# Altium footprint library RP2xxx_Stamp.PcbLib: 9 footprints
Each footprint in its own frame and in the unit in brackets; x right, y up, seen from the top. Pads: shape width x height; smd on the part's side, far side on the other; paste and mask are expansions set on the pad; w line width, h text height; cw(c..) or ccw(c..) is an arc to the next point about the centre after c.
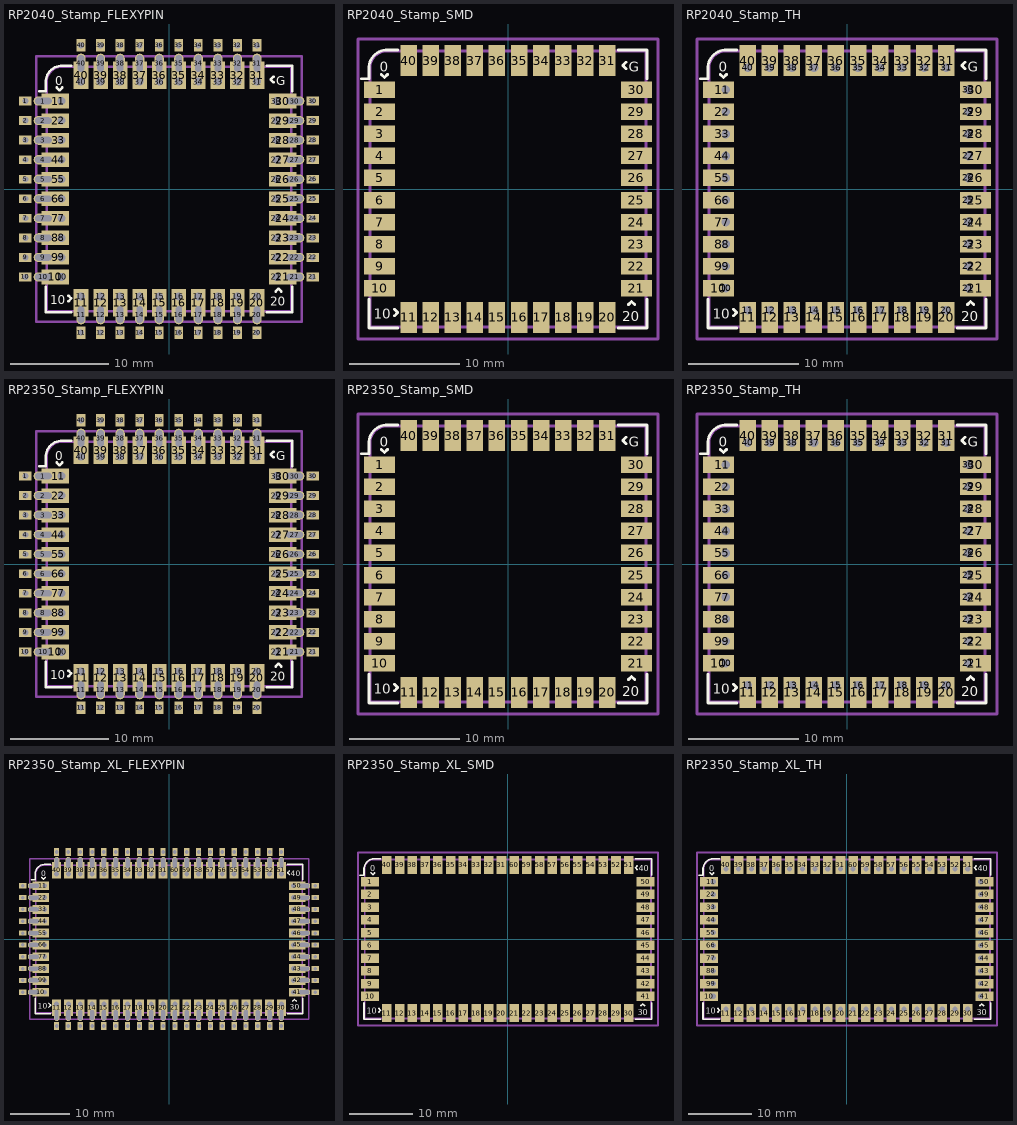
[diagram p0: the footprints below, top view; thin cyan lines are the x and y axes]

## RP2040_Stamp_FLEXYPIN [mm]
pads (160):
  rect 1.3x0.9 hole 0.6: 1(-14.7,9) 2(-14.7,7) 3(-14.7,5) 4(-14.7,3) 5(-14.7,1) 6(-14.7,-1) 7(-14.7,-3) 8(-14.7,-5) 9(-14.7,-7) 10(-14.7,-9) 21(14.7,-9) 22(14.7,-7) 23(14.7,-5) 24(14.7,-3) 25(14.7,-1) 26(14.7,1) 27(14.7,3) 28(14.7,5) 29(14.7,7) 30(14.7,9)
  rrect100% 2x0.95 hole 0.65 slot 1.7 at 0 deg: 1(-12.85,9) 2(-12.85,7) 3(-12.85,5) 4(-12.85,3) 5(-12.85,1) 6(-12.85,-1) 7(-12.85,-3) 8(-12.85,-5) 9(-12.85,-7) 10(-12.85,-9) 21(12.85,-9) 22(12.85,-7) 23(12.85,-5) 24(12.85,-3) 25(12.85,-1) 26(12.85,1) 27(12.85,3) 28(12.85,5) 29(12.85,7) 30(12.85,9)
  rect 2.8x1.5 smd: 1(-11.65,9) 2(-11.65,7) 3(-11.65,5) 4(-11.65,3) 5(-11.65,1) 6(-11.65,-1) 7(-11.65,-3) 8(-11.65,-5) 9(-11.65,-7) 10(-11.65,-9) 21(11.65,-9) 22(11.65,-7) 23(11.65,-5) 24(11.65,-3) 25(11.65,-1) 26(11.65,1) 27(11.65,3) 28(11.65,5) 29(11.65,7) 30(11.65,9)
  round 1.35 hole 0.8: 1(-11,9)
  rrect100% 1.35x1.35 hole 0.8: 2(-11,7) 3(-11,5) 4(-11,3) 5(-11,1) 6(-11,-1) 7(-11,-3) 8(-11,-5) 9(-11,-7) 10(-11,-9) 11(-9,-11) 12(-7,-11) 13(-5,-11) 14(-3,-11) 15(-1,-11) 16(1,-11) 17(3,-11) 18(5,-11) 19(7,-11) 20(9,-11) 21(11,-9) 22(11,-7) 23(11,-5) 24(11,-3) 25(11,-1) 26(11,1) 27(11,3) 28(11,5) 29(11,7) 30(11,9) 31(9,11) 32(7,11) 33(5,11) 34(3,11) 35(1,11) 36(-1,11) 37(-3,11) 38(-5,11) 39(-7,11) 40(-9,11)
  rect 0.9x1.3 hole 0.6: 11(-9,-14.7) 12(-7,-14.7) 13(-5,-14.7) 14(-3,-14.7) 15(-1,-14.7) 16(1,-14.7) 17(3,-14.7) 18(5,-14.7) 19(7,-14.7) 20(9,-14.7) 31(9,14.7) 32(7,14.7) 33(5,14.7) 34(3,14.7) 35(1,14.7) 36(-1,14.7) 37(-3,14.7) 38(-5,14.7) 39(-7,14.7) 40(-9,14.7)
  rrect100% 0.95x2 hole 0.65 slot 1.7 at 90 deg: 11(-9,-12.85) 12(-7,-12.85) 13(-5,-12.85) 14(-3,-12.85) 15(-1,-12.85) 16(1,-12.85) 17(3,-12.85) 18(5,-12.85) 19(7,-12.85) 20(9,-12.85) 31(9,12.85) 32(7,12.85) 33(5,12.85) 34(3,12.85) 35(1,12.85) 36(-1,12.85) 37(-3,12.85) 38(-5,12.85) 39(-7,12.85) 40(-9,12.85)
  rect 1.5x2.8 smd: 11(-9,-11.65) 12(-7,-11.65) 13(-5,-11.65) 14(-3,-11.65) 15(-1,-11.65) 16(1,-11.65) 17(3,-11.65) 18(5,-11.65) 19(7,-11.65) 20(9,-11.65) 31(9,11.65) 32(7,11.65) 33(5,11.65) 34(3,11.65) 35(1,11.65) 36(-1,11.65) 37(-3,11.65) 38(-5,11.65) 39(-7,11.65) 40(-9,11.65)
Top Overlay:
  lines w0.254: -13.3,10 -12.6,10 -12.6,11.1 cw(c-10.983,10.983) -11.1,12.6 -10,12.6 ; -12.6,-10 -12.6,-12.6 -10,-12.6 ; -11.5,10.4 -11.2,10.1 -10.9,10.4 ; -10.3,-11.5 -10,-11.2 -10.3,-10.9 ; 10,-12.6 12.6,-12.6 12.6,-10 ; 10,12.6 12.6,12.6 12.6,10 ; 10.7,10.9 10.4,11.2 10.7,11.5 ; 10.9,-10.5 11.2,-10.2 11.5,-10.5
  text "10" at -12.15,-11.77 h0.9
  text "G" at 10.959,10.63 h0.9
  text "20" at 10.379,-11.97 h0.9
  text "0" at -11.62,10.63 h0.9
Mechanical 7:
  lines w0.254: -13.6,-13.6 -13.6,13.6 13.6,13.6 13.6,-13.6 -13.6,-13.6
Assembly Top:
  lines w0.254: -12.5,-12.5 12.5,-12.5 12.5,12.5 -11,12.5 ccw(c-11,11) -12.5,11 -12.5,-12.5
  text ".Designator" at -4.998,-0.333 h1
3D body "RP2040_Stamp.step": height 2.58, standoff -0.06, extent -12.5,-12.5 12.5,12.5

## RP2040_Stamp_SMD [mm]
pads (40):
  rect 2.8x1.5 smd: 1(-11.65,9) 2(-11.65,7) 3(-11.65,5) 4(-11.65,3) 5(-11.65,1) 6(-11.65,-1) 7(-11.65,-3) 8(-11.65,-5) 9(-11.65,-7) 10(-11.65,-9) 21(11.65,-9) 22(11.65,-7) 23(11.65,-5) 24(11.65,-3) 25(11.65,-1) 26(11.65,1) 27(11.65,3) 28(11.65,5) 29(11.65,7) 30(11.65,9)
  rect 1.5x2.8 smd: 11(-9,-11.65) 12(-7,-11.65) 13(-5,-11.65) 14(-3,-11.65) 15(-1,-11.65) 16(1,-11.65) 17(3,-11.65) 18(5,-11.65) 19(7,-11.65) 20(9,-11.65) 31(9,11.65) 32(7,11.65) 33(5,11.65) 34(3,11.65) 35(1,11.65) 36(-1,11.65) 37(-3,11.65) 38(-5,11.65) 39(-7,11.65) 40(-9,11.65)
Top Overlay:
  lines w0.254: -13.3,10 -12.6,10 -12.6,11.1 cw(c-10.983,10.983) -11.1,12.6 -10,12.6 ; -12.6,-10 -12.6,-12.6 -10,-12.6 ; -11.5,10.4 -11.2,10.1 -10.9,10.4 ; -10.3,-11.5 -10,-11.2 -10.3,-10.9 ; 10,-12.6 12.6,-12.6 12.6,-10 ; 10,12.6 12.6,12.6 12.6,10 ; 10.7,10.9 10.4,11.2 10.7,11.5 ; 10.9,-10.5 11.2,-10.2 11.5,-10.5
  text "10" at -12.15,-11.77 h0.9
  text "G" at 10.959,10.63 h0.9
  text "20" at 10.379,-11.97 h0.9
  text "0" at -11.62,10.63 h0.9
Mechanical 7:
  lines w0.254: -13.6,-13.6 13.6,-13.6 13.6,13.6 -13.6,13.6 -13.6,-13.6
Assembly Top:
  lines w0.254: -12.5,-12.5 12.5,-12.5 12.5,12.5 -11,12.5 ccw(c-11,11) -12.5,11 -12.5,-12.5
  text ".Designator" at -4.998,-0.333 h1
3D body "RP2040_Stamp.step": height 2.58, standoff -0.06, extent -12.5,-12.5 12.5,12.5

## RP2040_Stamp_TH [mm]
pads (80):
  rect 2.8x1.5 smd: 1(-11.65,9) 2(-11.65,7) 3(-11.65,5) 4(-11.65,3) 5(-11.65,1) 6(-11.65,-1) 7(-11.65,-3) 8(-11.65,-5) 9(-11.65,-7) 10(-11.65,-9) 21(11.65,-9) 22(11.65,-7) 23(11.65,-5) 24(11.65,-3) 25(11.65,-1) 26(11.65,1) 27(11.65,3) 28(11.65,5) 29(11.65,7) 30(11.65,9)
  round 1.35 hole 0.8: 1(-11,9)
  rrect100% 1.35x1.35 hole 0.8: 2(-11,7) 3(-11,5) 4(-11,3) 5(-11,1) 6(-11,-1) 7(-11,-3) 8(-11,-5) 9(-11,-7) 10(-11,-9) 11(-9,-11) 12(-7,-11) 13(-5,-11) 14(-3,-11) 15(-1,-11) 16(1,-11) 17(3,-11) 18(5,-11) 19(7,-11) 20(9,-11) 21(11,-9) 22(11,-7) 23(11,-5) 24(11,-3) 25(11,-1) 26(11,1) 27(11,3) 28(11,5) 29(11,7) 30(11,9) 31(9,11) 32(7,11) 33(5,11) 34(3,11) 35(1,11) 36(-1,11) 37(-3,11) 38(-5,11) 39(-7,11) 40(-9,11)
  rect 1.5x2.8 smd: 11(-9,-11.65) 12(-7,-11.65) 13(-5,-11.65) 14(-3,-11.65) 15(-1,-11.65) 16(1,-11.65) 17(3,-11.65) 18(5,-11.65) 19(7,-11.65) 20(9,-11.65) 31(9,11.65) 32(7,11.65) 33(5,11.65) 34(3,11.65) 35(1,11.65) 36(-1,11.65) 37(-3,11.65) 38(-5,11.65) 39(-7,11.65) 40(-9,11.65)
Top Overlay:
  lines w0.254: -13.3,10 -12.6,10 -12.6,11.1 cw(c-10.983,10.983) -11.1,12.6 -10,12.6 ; -12.6,-10 -12.6,-12.6 -10,-12.6 ; -11.5,10.4 -11.2,10.1 -10.9,10.4 ; -10.3,-11.5 -10,-11.2 -10.3,-10.9 ; 10,-12.6 12.6,-12.6 12.6,-10 ; 10,12.6 12.6,12.6 12.6,10 ; 10.7,10.9 10.4,11.2 10.7,11.5 ; 10.9,-10.5 11.2,-10.2 11.5,-10.5
  text "0" at -11.62,10.63 h0.9
  text "20" at 10.379,-11.97 h0.9
  text "G" at 10.959,10.63 h0.9
  text "10" at -12.15,-11.77 h0.9
Mechanical 7:
  lines w0.254: -13.6,-13.6 13.6,-13.6 13.6,13.6 -13.6,13.6 -13.6,-13.6
Assembly Top:
  lines w0.254: -12.5,-12.5 -12.5,11 cw(c-11,11) -11,12.5 12.5,12.5 12.5,-12.5 -12.5,-12.5
  text ".Designator" at -4.998,-0.333 h1
3D body "RP2040_Stamp.step": height 2.58, standoff -0.06, extent -12.5,-12.5 12.5,12.5

## RP2350_Stamp_FLEXYPIN [mm]
pads (160):
  rect 1.3x0.9 hole 0.6: 1(-14.7,9) 2(-14.7,7) 3(-14.7,5) 4(-14.7,3) 5(-14.7,1) 6(-14.7,-1) 7(-14.7,-3) 8(-14.7,-5) 9(-14.7,-7) 10(-14.7,-9) 21(14.7,-9) 22(14.7,-7) 23(14.7,-5) 24(14.7,-3) 25(14.7,-1) 26(14.7,1) 27(14.7,3) 28(14.7,5) 29(14.7,7) 30(14.7,9)
  rrect100% 2x0.95 hole 0.65 slot 1.7 at 0 deg: 1(-12.85,9) 2(-12.85,7) 3(-12.85,5) 4(-12.85,3) 5(-12.85,1) 6(-12.85,-1) 7(-12.85,-3) 8(-12.85,-5) 9(-12.85,-7) 10(-12.85,-9) 21(12.85,-9) 22(12.85,-7) 23(12.85,-5) 24(12.85,-3) 25(12.85,-1) 26(12.85,1) 27(12.85,3) 28(12.85,5) 29(12.85,7) 30(12.85,9)
  rect 2.8x1.5 smd: 1(-11.65,9) 2(-11.65,7) 3(-11.65,5) 4(-11.65,3) 5(-11.65,1) 6(-11.65,-1) 7(-11.65,-3) 8(-11.65,-5) 9(-11.65,-7) 10(-11.65,-9) 21(11.65,-9) 22(11.65,-7) 23(11.65,-5) 24(11.65,-3) 25(11.65,-1) 26(11.65,1) 27(11.65,3) 28(11.65,5) 29(11.65,7) 30(11.65,9)
  round 1.35 hole 0.8: 1(-11,9)
  rrect100% 1.35x1.35 hole 0.8: 2(-11,7) 3(-11,5) 4(-11,3) 5(-11,1) 6(-11,-1) 7(-11,-3) 8(-11,-5) 9(-11,-7) 10(-11,-9) 11(-9,-11) 12(-7,-11) 13(-5,-11) 14(-3,-11) 15(-1,-11) 16(1,-11) 17(3,-11) 18(5,-11) 19(7,-11) 20(9,-11) 21(11,-9) 22(11,-7) 23(11,-5) 24(11,-3) 25(11,-1) 26(11,1) 27(11,3) 28(11,5) 29(11,7) 30(11,9) 31(9,11) 32(7,11) 33(5,11) 34(3,11) 35(1,11) 36(-1,11) 37(-3,11) 38(-5,11) 39(-7,11) 40(-9,11)
  rect 0.9x1.3 hole 0.6: 11(-9,-14.7) 12(-7,-14.7) 13(-5,-14.7) 14(-3,-14.7) 15(-1,-14.7) 16(1,-14.7) 17(3,-14.7) 18(5,-14.7) 19(7,-14.7) 20(9,-14.7) 31(9,14.7) 32(7,14.7) 33(5,14.7) 34(3,14.7) 35(1,14.7) 36(-1,14.7) 37(-3,14.7) 38(-5,14.7) 39(-7,14.7) 40(-9,14.7)
  rrect100% 0.95x2 hole 0.65 slot 1.7 at 90 deg: 11(-9,-12.85) 12(-7,-12.85) 13(-5,-12.85) 14(-3,-12.85) 15(-1,-12.85) 16(1,-12.85) 17(3,-12.85) 18(5,-12.85) 19(7,-12.85) 20(9,-12.85) 31(9,12.85) 32(7,12.85) 33(5,12.85) 34(3,12.85) 35(1,12.85) 36(-1,12.85) 37(-3,12.85) 38(-5,12.85) 39(-7,12.85) 40(-9,12.85)
  rect 1.5x2.8 smd: 11(-9,-11.65) 12(-7,-11.65) 13(-5,-11.65) 14(-3,-11.65) 15(-1,-11.65) 16(1,-11.65) 17(3,-11.65) 18(5,-11.65) 19(7,-11.65) 20(9,-11.65) 31(9,11.65) 32(7,11.65) 33(5,11.65) 34(3,11.65) 35(1,11.65) 36(-1,11.65) 37(-3,11.65) 38(-5,11.65) 39(-7,11.65) 40(-9,11.65)
Top Overlay:
  lines w0.254: -13.3,10 -12.6,10 -12.6,11.1 cw(c-10.983,10.983) -11.1,12.6 -10,12.6 ; -12.6,-10 -12.6,-12.6 -10,-12.6 ; -11.5,10.4 -11.2,10.1 -10.9,10.4 ; -10.3,-11.5 -10,-11.2 -10.3,-10.9 ; 10,-12.6 12.6,-12.6 12.6,-10 ; 10,12.6 12.6,12.6 12.6,10 ; 10.7,10.9 10.4,11.2 10.7,11.5 ; 10.9,-10.5 11.2,-10.2 11.5,-10.5
  text "10" at -12.15,-11.77 h0.9
  text "G" at 10.959,10.63 h0.9
  text "20" at 10.379,-11.97 h0.9
  text "0" at -11.62,10.63 h0.9
Mechanical 7:
  lines w0.254: -13.6,-13.6 -13.6,13.6 13.6,13.6 13.6,-13.6 -13.6,-13.6
Assembly Top:
  lines w0.254: -12.5,-12.5 12.5,-12.5 12.5,12.5 -11,12.5 ccw(c-11,11) -12.5,11 -12.5,-12.5
  text ".Designator" at -4.998,-0.333 h1
3D body "RP2350_Stamp.step": height 2.55, standoff -0.04, extent -12.5,-12.5 12.5,12.5

## RP2350_Stamp_SMD [mm]
pads (40):
  rect 2.8x1.5 smd: 1(-11.65,9) 2(-11.65,7) 3(-11.65,5) 4(-11.65,3) 5(-11.65,1) 6(-11.65,-1) 7(-11.65,-3) 8(-11.65,-5) 9(-11.65,-7) 10(-11.65,-9) 21(11.65,-9) 22(11.65,-7) 23(11.65,-5) 24(11.65,-3) 25(11.65,-1) 26(11.65,1) 27(11.65,3) 28(11.65,5) 29(11.65,7) 30(11.65,9)
  rect 1.5x2.8 smd: 11(-9,-11.65) 12(-7,-11.65) 13(-5,-11.65) 14(-3,-11.65) 15(-1,-11.65) 16(1,-11.65) 17(3,-11.65) 18(5,-11.65) 19(7,-11.65) 20(9,-11.65) 31(9,11.65) 32(7,11.65) 33(5,11.65) 34(3,11.65) 35(1,11.65) 36(-1,11.65) 37(-3,11.65) 38(-5,11.65) 39(-7,11.65) 40(-9,11.65)
Top Overlay:
  lines w0.254: -13.3,10 -12.6,10 -12.6,11.1 cw(c-10.983,10.983) -11.1,12.6 -10,12.6 ; -12.6,-10 -12.6,-12.6 -10,-12.6 ; -11.5,10.4 -11.2,10.1 -10.9,10.4 ; -10.3,-11.5 -10,-11.2 -10.3,-10.9 ; 10,-12.6 12.6,-12.6 12.6,-10 ; 10,12.6 12.6,12.6 12.6,10 ; 10.7,10.9 10.4,11.2 10.7,11.5 ; 10.9,-10.5 11.2,-10.2 11.5,-10.5
  text "10" at -12.15,-11.77 h0.9
  text "G" at 10.959,10.63 h0.9
  text "20" at 10.379,-11.97 h0.9
  text "0" at -11.62,10.63 h0.9
Mechanical 7:
  lines w0.254: -13.6,-13.6 -13.6,13.6 13.6,13.6 13.6,-13.6 -13.6,-13.6
Assembly Top:
  lines w0.254: -12.5,-12.5 12.5,-12.5 12.5,12.5 -11,12.5 ccw(c-11,11) -12.5,11 -12.5,-12.5
  text ".Designator" at -4.998,-0.333 h1
3D body "RP2350_Stamp.step": height 2.55, standoff -0.04, extent -12.5,-12.5 12.5,12.5

## RP2350_Stamp_TH [mm]
pads (80):
  rect 2.8x1.5 smd: 1(-11.65,9) 2(-11.65,7) 3(-11.65,5) 4(-11.65,3) 5(-11.65,1) 6(-11.65,-1) 7(-11.65,-3) 8(-11.65,-5) 9(-11.65,-7) 10(-11.65,-9) 21(11.65,-9) 22(11.65,-7) 23(11.65,-5) 24(11.65,-3) 25(11.65,-1) 26(11.65,1) 27(11.65,3) 28(11.65,5) 29(11.65,7) 30(11.65,9)
  round 1.35 hole 0.8: 1(-11,9)
  rrect100% 1.35x1.35 hole 0.8: 2(-11,7) 3(-11,5) 4(-11,3) 5(-11,1) 6(-11,-1) 7(-11,-3) 8(-11,-5) 9(-11,-7) 10(-11,-9) 11(-9,-11) 12(-7,-11) 13(-5,-11) 14(-3,-11) 15(-1,-11) 16(1,-11) 17(3,-11) 18(5,-11) 19(7,-11) 20(9,-11) 21(11,-9) 22(11,-7) 23(11,-5) 24(11,-3) 25(11,-1) 26(11,1) 27(11,3) 28(11,5) 29(11,7) 30(11,9) 31(9,11) 32(7,11) 33(5,11) 34(3,11) 35(1,11) 36(-1,11) 37(-3,11) 38(-5,11) 39(-7,11) 40(-9,11)
  rect 1.5x2.8 smd: 11(-9,-11.65) 12(-7,-11.65) 13(-5,-11.65) 14(-3,-11.65) 15(-1,-11.65) 16(1,-11.65) 17(3,-11.65) 18(5,-11.65) 19(7,-11.65) 20(9,-11.65) 31(9,11.65) 32(7,11.65) 33(5,11.65) 34(3,11.65) 35(1,11.65) 36(-1,11.65) 37(-3,11.65) 38(-5,11.65) 39(-7,11.65) 40(-9,11.65)
Top Overlay:
  lines w0.254: -13.3,10 -12.6,10 -12.6,11.1 cw(c-10.983,10.983) -11.1,12.6 -10,12.6 ; -12.6,-10 -12.6,-12.6 -10,-12.6 ; -11.5,10.4 -11.2,10.1 -10.9,10.4 ; -10.3,-11.5 -10,-11.2 -10.3,-10.9 ; 10,-12.6 12.6,-12.6 12.6,-10 ; 10,12.6 12.6,12.6 12.6,10 ; 10.7,10.9 10.4,11.2 10.7,11.5 ; 10.9,-10.5 11.2,-10.2 11.5,-10.5
  text "0" at -11.62,10.63 h0.9
  text "20" at 10.379,-11.97 h0.9
  text "G" at 10.959,10.63 h0.9
  text "10" at -12.15,-11.77 h0.9
Mechanical 7:
  lines w0.254: -13.6,-13.6 13.6,-13.6 13.6,13.6 -13.6,13.6 -13.6,-13.6
Assembly Top:
  lines w0.254: -12.5,-12.5 -12.5,11 cw(c-11,11) -11,12.5 12.5,12.5 12.5,-12.5 -12.5,-12.5
  text ".Designator" at -4.998,-0.333 h1
3D body "RP2350_Stamp.step": height 2.55, standoff -0.04, extent -12.5,-12.5 12.5,12.5

## RP2350_Stamp_XL_FLEXYPIN [mm]
pads (240):
  rect 1.3x0.9 hole 0.6: 1(-24.7,9) 2(-24.7,7) 3(-24.7,5) 4(-24.7,3) 5(-24.7,1) 6(-24.7,-1) 7(-24.7,-3) 8(-24.7,-5) 9(-24.7,-7) 10(-24.7,-9) 41(24.7,-9) 42(24.7,-7) 43(24.7,-5) 44(24.7,-3) 45(24.7,-1) 46(24.7,1) 47(24.7,3) 48(24.7,5) 49(24.7,7) 50(24.7,9)
  rrect100% 2x0.95 hole 0.65 slot 1.7 at 0 deg: 1(-22.85,9) 2(-22.85,7) 3(-22.85,5) 4(-22.85,3) 5(-22.85,1) 6(-22.85,-1) 7(-22.85,-3) 8(-22.85,-5) 9(-22.85,-7) 10(-22.85,-9) 41(22.85,-9) 42(22.85,-7) 43(22.85,-5) 44(22.85,-3) 45(22.85,-1) 46(22.85,1) 47(22.85,3) 48(22.85,5) 49(22.85,7) 50(22.85,9)
  rect 2.8x1.5 smd: 1(-21.65,9) 2(-21.65,7) 3(-21.65,5) 4(-21.65,3) 5(-21.65,1) 6(-21.65,-1) 7(-21.65,-3) 8(-21.65,-5) 9(-21.65,-7) 10(-21.65,-9) 41(21.65,-9) 42(21.65,-7) 43(21.65,-5) 44(21.65,-3) 45(21.65,-1) 46(21.65,1) 47(21.65,3) 48(21.65,5) 49(21.65,7) 50(21.65,9)
  round 1.35 hole 0.8: 1(-21,9)
  rrect100% 1.35x1.35 hole 0.8: 2(-21,7) 3(-21,5) 4(-21,3) 5(-21,1) 6(-21,-1) 7(-21,-3) 8(-21,-5) 9(-21,-7) 10(-21,-9) 11(-19,-11) 12(-17,-11) 13(-15,-11) 14(-13,-11) 15(-11,-11) 16(-9,-11) 17(-7,-11) 18(-5,-11) 19(-3,-11) 20(-1,-11) 21(1,-11) 22(3,-11) 23(5,-11) 24(7,-11) 25(9,-11) 26(11,-11) 27(13,-11) 28(15,-11) 29(17,-11) 30(19,-11) 31(-1,11) 32(-3,11) 33(-5,11) 34(-7,11) 35(-9,11) 36(-11,11) 37(-13,11) 38(-15,11) 39(-17,11) 40(-19,11) 41(21,-9) 42(21,-7) 43(21,-5) 44(21,-3) 45(21,-1) 46(21,1) 47(21,3) 48(21,5) 49(21,7) 50(21,9) 51(19,11) 52(17,11) 53(15,11) 54(13,11) 55(11,11) 56(9,11) 57(7,11) 58(5,11) 59(3,11) 60(1,11)
  rect 0.9x1.3 hole 0.6: 11(-19,-14.7) 12(-17,-14.7) 13(-15,-14.7) 14(-13,-14.7) 15(-11,-14.7) 16(-9,-14.7) 17(-7,-14.7) 18(-5,-14.7) 19(-3,-14.7) 20(-1,-14.7) 21(1,-14.7) 22(3,-14.7) 23(5,-14.7) 24(7,-14.7) 25(9,-14.7) 26(11,-14.7) 27(13,-14.7) 28(15,-14.7) 29(17,-14.7) 30(19,-14.7) 31(-1,14.7) 32(-3,14.7) 33(-5,14.7) 34(-7,14.7) 35(-9,14.7) 36(-11,14.7) 37(-13,14.7) 38(-15,14.7) 39(-17,14.7) 40(-19,14.7) 51(19,14.7) 52(17,14.7) 53(15,14.7) 54(13,14.7) 55(11,14.7) 56(9,14.7) 57(7,14.7) 58(5,14.7) 59(3,14.7) 60(1,14.7)
  rrect100% 0.95x2 hole 0.65 slot 1.7 at 90 deg: 11(-19,-12.85) 12(-17,-12.85) 13(-15,-12.85) 14(-13,-12.85) 15(-11,-12.85) 16(-9,-12.85) 17(-7,-12.85) 18(-5,-12.85) 19(-3,-12.85) 20(-1,-12.85) 21(1,-12.85) 22(3,-12.85) 23(5,-12.85) 24(7,-12.85) 25(9,-12.85) 26(11,-12.85) 27(13,-12.85) 28(15,-12.85) 29(17,-12.85) 30(19,-12.85) 31(-1,12.85) 32(-3,12.85) 33(-5,12.85) 34(-7,12.85) 35(-9,12.85) 36(-11,12.85) 37(-13,12.85) 38(-15,12.85) 39(-17,12.85) 40(-19,12.85) 51(19,12.85) 52(17,12.85) 53(15,12.85) 54(13,12.85) 55(11,12.85) 56(9,12.85) 57(7,12.85) 58(5,12.85) 59(3,12.85) 60(1,12.85)
  rect 1.5x2.8 smd: 11(-19,-11.65) 12(-17,-11.65) 13(-15,-11.65) 14(-13,-11.65) 15(-11,-11.65) 16(-9,-11.65) 17(-7,-11.65) 18(-5,-11.65) 19(-3,-11.65) 20(-1,-11.65) 21(1,-11.65) 22(3,-11.65) 23(5,-11.65) 24(7,-11.65) 25(9,-11.65) 26(11,-11.65) 27(13,-11.65) 28(15,-11.65) 29(17,-11.65) 30(19,-11.65) 31(-1,11.65) 32(-3,11.65) 33(-5,11.65) 34(-7,11.65) 35(-9,11.65) 36(-11,11.65) 37(-13,11.65) 38(-15,11.65) 39(-17,11.65) 40(-19,11.65) 51(19,11.65) 52(17,11.65) 53(15,11.65) 54(13,11.65) 55(11,11.65) 56(9,11.65) 57(7,11.65) 58(5,11.65) 59(3,11.65) 60(1,11.65)
Top Overlay:
  lines w0.254: -23.3,10 -22.6,10 -22.6,11.1 cw(c-20.983,10.983) -21.1,12.6 -20,12.6 ; -22.6,-10 -22.6,-12.6 -20,-12.6 ; -21.5,10.4 -21.2,10.1 -20.9,10.4 ; -20.3,-11.5 -20,-11.2 -20.3,-10.9 ; 20,-12.6 22.6,-12.6 22.6,-10 ; 20,12.6 22.6,12.6 22.6,10 ; 20.35,10.9 20.05,11.2 20.35,11.5 ; 20.9,-10.5 21.2,-10.2 21.5,-10.5
  text "30" at 20.379,-11.97 h0.9
  text "40" at 20.579,10.63 h0.9
  text "10" at -22.15,-11.77 h0.9
  text "0" at -21.62,10.63 h0.9
Mechanical 7:
  lines w0.254: -23.55,-13.6 23.6,-13.6 23.6,13.6 -23.55,13.6 -23.55,-13.6
Assembly Top:
  lines w0.254: -22.5,-12.5 22.5,-12.5 22.5,12.5 -21,12.5 ccw(c-21,11) -22.5,11 -22.5,-12.5
  text ".Designator" at -4.998,-0.333 h1
3D body "RP2350_Stamp_XL.step": height 2.55, standoff -0.04, extent -22.5,-12.5 22.5,12.5

## RP2350_Stamp_XL_SMD [mm]
pads (60):
  rect 2.8x1.5 smd: 1(-21.65,9) 2(-21.65,7) 3(-21.65,5) 4(-21.65,3) 5(-21.65,1) 6(-21.65,-1) 7(-21.65,-3) 8(-21.65,-5) 9(-21.65,-7) 10(-21.65,-9) 41(21.65,-9) 42(21.65,-7) 43(21.65,-5) 44(21.65,-3) 45(21.65,-1) 46(21.65,1) 47(21.65,3) 48(21.65,5) 49(21.65,7) 50(21.65,9)
  rect 1.5x2.8 smd: 11(-19,-11.65) 12(-17,-11.65) 13(-15,-11.65) 14(-13,-11.65) 15(-11,-11.65) 16(-9,-11.65) 17(-7,-11.65) 18(-5,-11.65) 19(-3,-11.65) 20(-1,-11.65) 21(1,-11.65) 22(3,-11.65) 23(5,-11.65) 24(7,-11.65) 25(9,-11.65) 26(11,-11.65) 27(13,-11.65) 28(15,-11.65) 29(17,-11.65) 30(19,-11.65) 31(-1,11.65) 32(-3,11.65) 33(-5,11.65) 34(-7,11.65) 35(-9,11.65) 36(-11,11.65) 37(-13,11.65) 38(-15,11.65) 39(-17,11.65) 40(-19,11.65) 51(19,11.65) 52(17,11.65) 53(15,11.65) 54(13,11.65) 55(11,11.65) 56(9,11.65) 57(7,11.65) 58(5,11.65) 59(3,11.65) 60(1,11.65)
Top Overlay:
  lines w0.254: -23.3,10 -22.6,10 -22.6,11.1 cw(c-20.983,10.983) -21.1,12.6 -20,12.6 ; -22.6,-10 -22.6,-12.6 -20,-12.6 ; -21.5,10.4 -21.2,10.1 -20.9,10.4 ; -20.3,-11.5 -20,-11.2 -20.3,-10.9 ; 20,-12.6 22.6,-12.6 22.6,-10 ; 20,12.6 22.6,12.6 22.6,10 ; 20.35,10.9 20.05,11.2 20.35,11.5 ; 20.9,-10.5 21.2,-10.2 21.5,-10.5
  text "30" at 20.379,-11.97 h0.9
  text "40" at 20.579,10.63 h0.9
  text "10" at -22.15,-11.77 h0.9
  text "0" at -21.62,10.63 h0.9
Mechanical 7:
  lines w0.254: -23.55,-13.6 23.6,-13.6 23.6,13.6 -23.55,13.6 -23.55,-13.6
Assembly Top:
  lines w0.254: -22.5,-12.5 22.5,-12.5 22.5,12.5 -21,12.5 ccw(c-21,11) -22.5,11 -22.5,-12.5
  text ".Designator" at -4.998,-0.333 h1
3D body "RP2350_Stamp_XL.step": height 2.55, standoff -0.04, extent -22.5,-12.5 22.5,12.5

## RP2350_Stamp_XL_TH [mm]
pads (120):
  rect 2.8x1.5 smd: 1(-21.65,9) 2(-21.65,7) 3(-21.65,5) 4(-21.65,3) 5(-21.65,1) 6(-21.65,-1) 7(-21.65,-3) 8(-21.65,-5) 9(-21.65,-7) 10(-21.65,-9) 41(21.65,-9) 42(21.65,-7) 43(21.65,-5) 44(21.65,-3) 45(21.65,-1) 46(21.65,1) 47(21.65,3) 48(21.65,5) 49(21.65,7) 50(21.65,9)
  round 1.35 hole 0.8: 1(-21,9)
  rrect100% 1.35x1.35 hole 0.8: 2(-21,7) 3(-21,5) 4(-21,3) 5(-21,1) 6(-21,-1) 7(-21,-3) 8(-21,-5) 9(-21,-7) 10(-21,-9) 11(-19,-11) 12(-17,-11) 13(-15,-11) 14(-13,-11) 15(-11,-11) 16(-9,-11) 17(-7,-11) 18(-5,-11) 19(-3,-11) 20(-1,-11) 21(1,-11) 22(3,-11) 23(5,-11) 24(7,-11) 25(9,-11) 26(11,-11) 27(13,-11) 28(15,-11) 29(17,-11) 30(19,-11) 31(-1,11) 32(-3,11) 33(-5,11) 34(-7,11) 35(-9,11) 36(-11,11) 37(-13,11) 38(-15,11) 39(-17,11) 40(-19,11) 41(21,-9) 42(21,-7) 43(21,-5) 44(21,-3) 45(21,-1) 46(21,1) 47(21,3) 48(21,5) 49(21,7) 50(21,9) 51(19,11) 52(17,11) 53(15,11) 54(13,11) 55(11,11) 56(9,11) 57(7,11) 58(5,11) 59(3,11) 60(1,11)
  rect 1.5x2.8 smd: 11(-19,-11.65) 12(-17,-11.65) 13(-15,-11.65) 14(-13,-11.65) 15(-11,-11.65) 16(-9,-11.65) 17(-7,-11.65) 18(-5,-11.65) 19(-3,-11.65) 20(-1,-11.65) 21(1,-11.65) 22(3,-11.65) 23(5,-11.65) 24(7,-11.65) 25(9,-11.65) 26(11,-11.65) 27(13,-11.65) 28(15,-11.65) 29(17,-11.65) 30(19,-11.65) 31(-1,11.65) 32(-3,11.65) 33(-5,11.65) 34(-7,11.65) 35(-9,11.65) 36(-11,11.65) 37(-13,11.65) 38(-15,11.65) 39(-17,11.65) 40(-19,11.65) 51(19,11.65) 52(17,11.65) 53(15,11.65) 54(13,11.65) 55(11,11.65) 56(9,11.65) 57(7,11.65) 58(5,11.65) 59(3,11.65) 60(1,11.65)
Top Overlay:
  lines w0.254: -23.3,10 -22.6,10 -22.6,11.1 cw(c-20.983,10.983) -21.1,12.6 -20,12.6 ; -22.6,-10 -22.6,-12.6 -20,-12.6 ; -21.5,10.4 -21.2,10.1 -20.9,10.4 ; -20.3,-11.5 -20,-11.2 -20.3,-10.9 ; 20,-12.6 22.6,-12.6 22.6,-10 ; 20,12.6 22.6,12.6 22.6,10 ; 20.35,10.9 20.05,11.2 20.35,11.5 ; 20.9,-10.5 21.2,-10.2 21.5,-10.5
  text "30" at 20.379,-11.97 h0.9
  text "40" at 20.579,10.63 h0.9
  text "10" at -22.15,-11.77 h0.9
  text "0" at -21.62,10.63 h0.9
Mechanical 7:
  lines w0.254: -23.55,-13.6 23.6,-13.6 23.6,13.6 -23.55,13.6 -23.55,-13.6
Assembly Top:
  lines w0.254: -22.5,-12.5 22.5,-12.5 22.5,12.5 -21,12.5 ccw(c-21,11) -22.5,11 -22.5,-12.5
  text ".Designator" at -4.998,-0.333 h1
3D body "RP2350_Stamp_XL.step": height 2.55, standoff -0.04, extent -22.5,-12.5 22.5,12.5